# EAGLE library part PCM1808 (library ICs)
Analogue to Digital Converter, 24 bit, 96 kSPS, Single, 4.5 V, 5.5 V, TSSOP
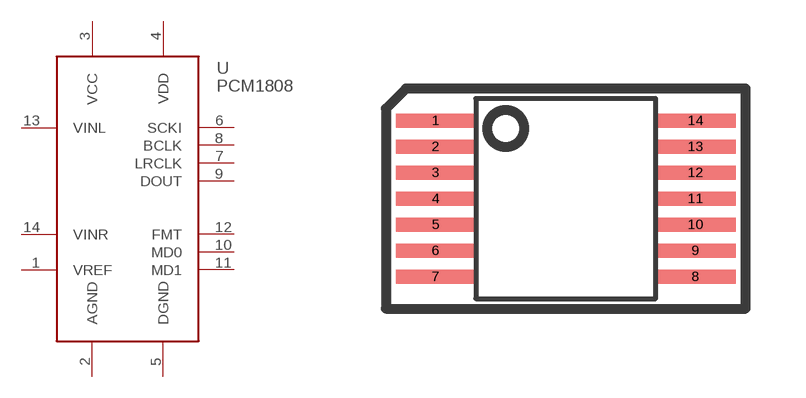
[diagram p142: symbol with the pads of TSSOP14; footprint TSSOP14]

Designator prefix U

## PCM1808 (FARNELL: 1390705; PRICE_PER: 2.53; VALUE: PCM1808)  [TSSOP14]
1  VREF
2  AGND
3  VCC
4  VDD
5  DGND
6  SCKI
7  LRCLK
8  BCLK
9  DOUT
10  MD0
11  MD1
12  FMT
13  VINL
14  VINR

## Footprint TSSOP14 (pad centres in mm)
smd 2 x 0.35: 1 -3.25,1.95; 2 -3.25,1.3; 3 -3.25,0.65; 4 -3.25,0; 5 -3.25,-0.65; 6 -3.25,-1.3; 7 -3.25,-1.95; 8 3.25,-1.95; 9 3.25,-1.3; 10 3.25,-0.65; 11 3.25,0; 12 3.25,0.65; 13 3.25,1.3; 14 3.25,1.95